# Altium footprint library WR-TBL_Spring Clamp_7.00mm.PcbLib: 2 footprints
Each footprint in its own frame and in the unit in brackets; x right, y up, seen from the top. Pads: shape width x height; smd on the part's side, far side on the other; paste and mask are expansions set on the pad; w line width, h text height; cw(c..) or ccw(c..) is an arc to the next point about the centre after c.
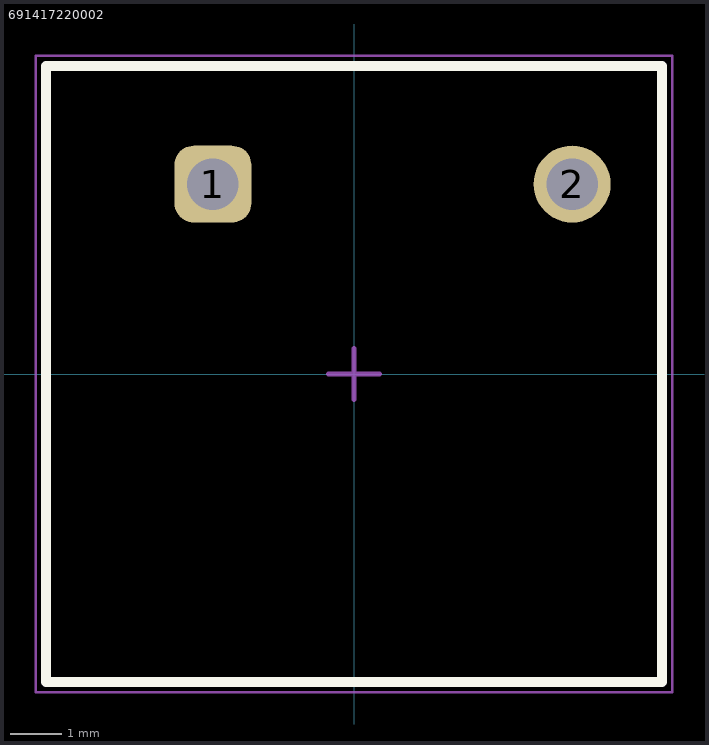
[diagram p0: the footprints below, top view; thin cyan lines are the x and y axes]

## 691417220002 [mm] "Serie 4172-7.00mm 45deg Cable Entry Screwless, 2 pins"
height 13.2
pads (2):
  rrect50% 1.5x1.5 hole 1: 1(-2.75,3.7)
  round 1.5 hole 1: 2(4.25,3.7)
Top Overlay:
  lines w0.2: -6,-6 6,-6 6,6 -6,6 -6,-6
Top Assembly:
  lines w0.1: -6,-6 -6,6 6,6 6,-6 -6,-6
Top Designator:
  text ".Designator" at -3.647,-0.357 h1
Top 3D Body:
  lines w0.1: -6,-6 6,-6 6,6 -6,6 -6,-6
Top Courtyard:
  lines w0.05: -6.2,-6.2 -6.2,6.2 6.2,6.2 6.2,-6.2 -6.2,-6.2
Top Component Center:
  lines w0.1: -0.5,0 0.5,0 ; 0,-0.5 0,0.5
3D body "691417220002.stp": height 13.23, standoff -3.57, extent -6,-6 6.001,6

## PCBComponent_1 [mm]